# EAGLE library part SOM_DEVC (library som9331)
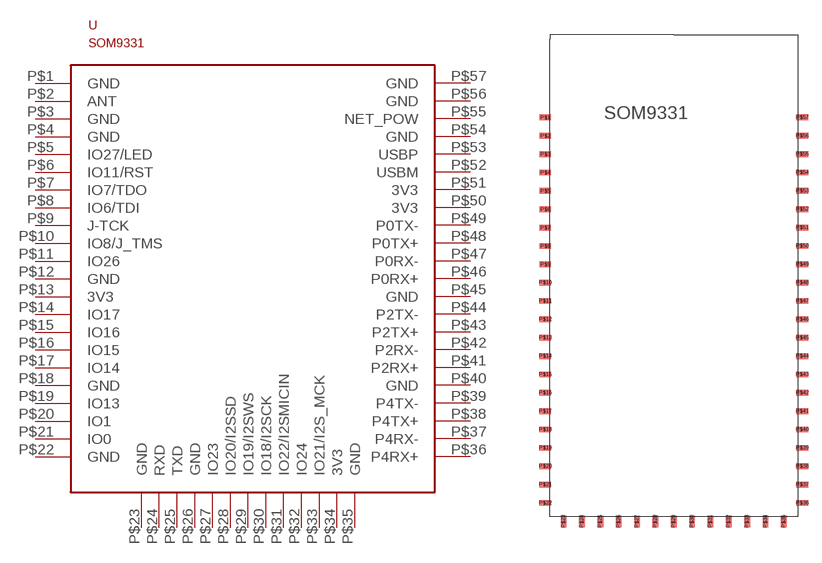
[diagram p0: symbol with the pads of SOM9331_PS_SPL; footprint SOM9331_PS_SPL]

Designator prefix -

## SOM_DEVC  [SOM9331_PS_SPL]
P$1  GND
P$2  ANT
P$3  GND
P$4  GND
P$5  IO27/LED
P$6  IO11/RST
P$7  IO7/TDO
P$8  IO6/TDI
P$9  J-TCK
P$10  IO8/J_TMS
P$11  IO26
P$12  GND
P$13  3V3
P$14  IO17
P$15  IO16
P$16  IO15
P$17  IO14
P$18  GND
P$19  IO13
P$20  IO1
P$21  IO0
P$22  GND
P$23  GND
P$24  RXD
P$25  TXD
P$26  GND
P$27  IO23
P$28  IO20/I2SSD
P$29  IO19/I2SWS
P$30  IO18/I2SCK
P$31  IO22/I2SMICIN
P$32  IO24
P$33  IO21/I2S_MCK
P$34  3V3
P$35  GND
P$36  P4RX+
P$37  P4RX-
P$38  P4TX+
P$39  P4TX-
P$40  GND
P$41  P2RX+
P$42  P2RX-
P$43  P2TX+
P$44  P2TX-
P$45  GND
P$46  P0RX+
P$47  P0RX-
P$48  P0TX+
P$49  P0TX-
P$50  3V3
P$51  3V3
P$52  USBM
P$53  USBP
P$54  GND
P$55  NET_POW
P$56  GND
P$57  GND

## Footprint SOM9331_PS_SPL (pad centres in mm)
smd 1.27 x 0.635: P$1 -14,4; P$2 -14,2; P$3 -14,0; P$4 -14,-2; P$5 -14,-4; P$6 -14,-6; P$7 -14,-8; P$8 -14,-10; P$9 -14,-12; P$10 -14,-14; P$11 -14,-16; P$12 -14,-18; P$13 -14,-20; P$14 -14,-22; P$15 -14,-24; P$16 -14,-26; P$17 -14,-28; P$18 -14,-30; P$19 -14,-32; P$20 -14,-34; P$21 -14,-36; P$22 -14,-38; P$36 14,-38; P$37 14,-36; P$38 14,-34; P$39 14,-32; P$40 14,-30; P$41 14,-28; P$42 14,-26; P$43 14,-24; P$44 14,-22; P$45 14,-20; P$46 14,-18; P$47 14,-16; P$48 14,-14; P$49 14,-12; P$50 14,-10; P$51 14,-8; P$52 14,-6; P$53 14,-4; P$54 14,-2; P$55 14,0; P$56 14,2; P$57 14,4
smd 0.635 x 1.27: P$23 -12,-40; P$24 -10,-40; P$25 -8,-40; P$26 -6,-40; P$27 -4,-40; P$28 -2,-40; P$29 0,-40; P$30 2,-40; P$31 4,-40; P$32 6,-40; P$33 8,-40; P$34 10,-40; P$35 12,-40